# Altium footprint library MLACHT_Z.PCBLIB: 150 footprints (part 6 of 10)
Each footprint in its own frame and in the unit in brackets; x right, y up, seen from the top. Pads: shape width x height; smd on the part's side, far side on the other; paste and mask are expansions set on the pad; w line width, h text height; cw(c..) or ccw(c..) is an arc to the next point about the centre after c.
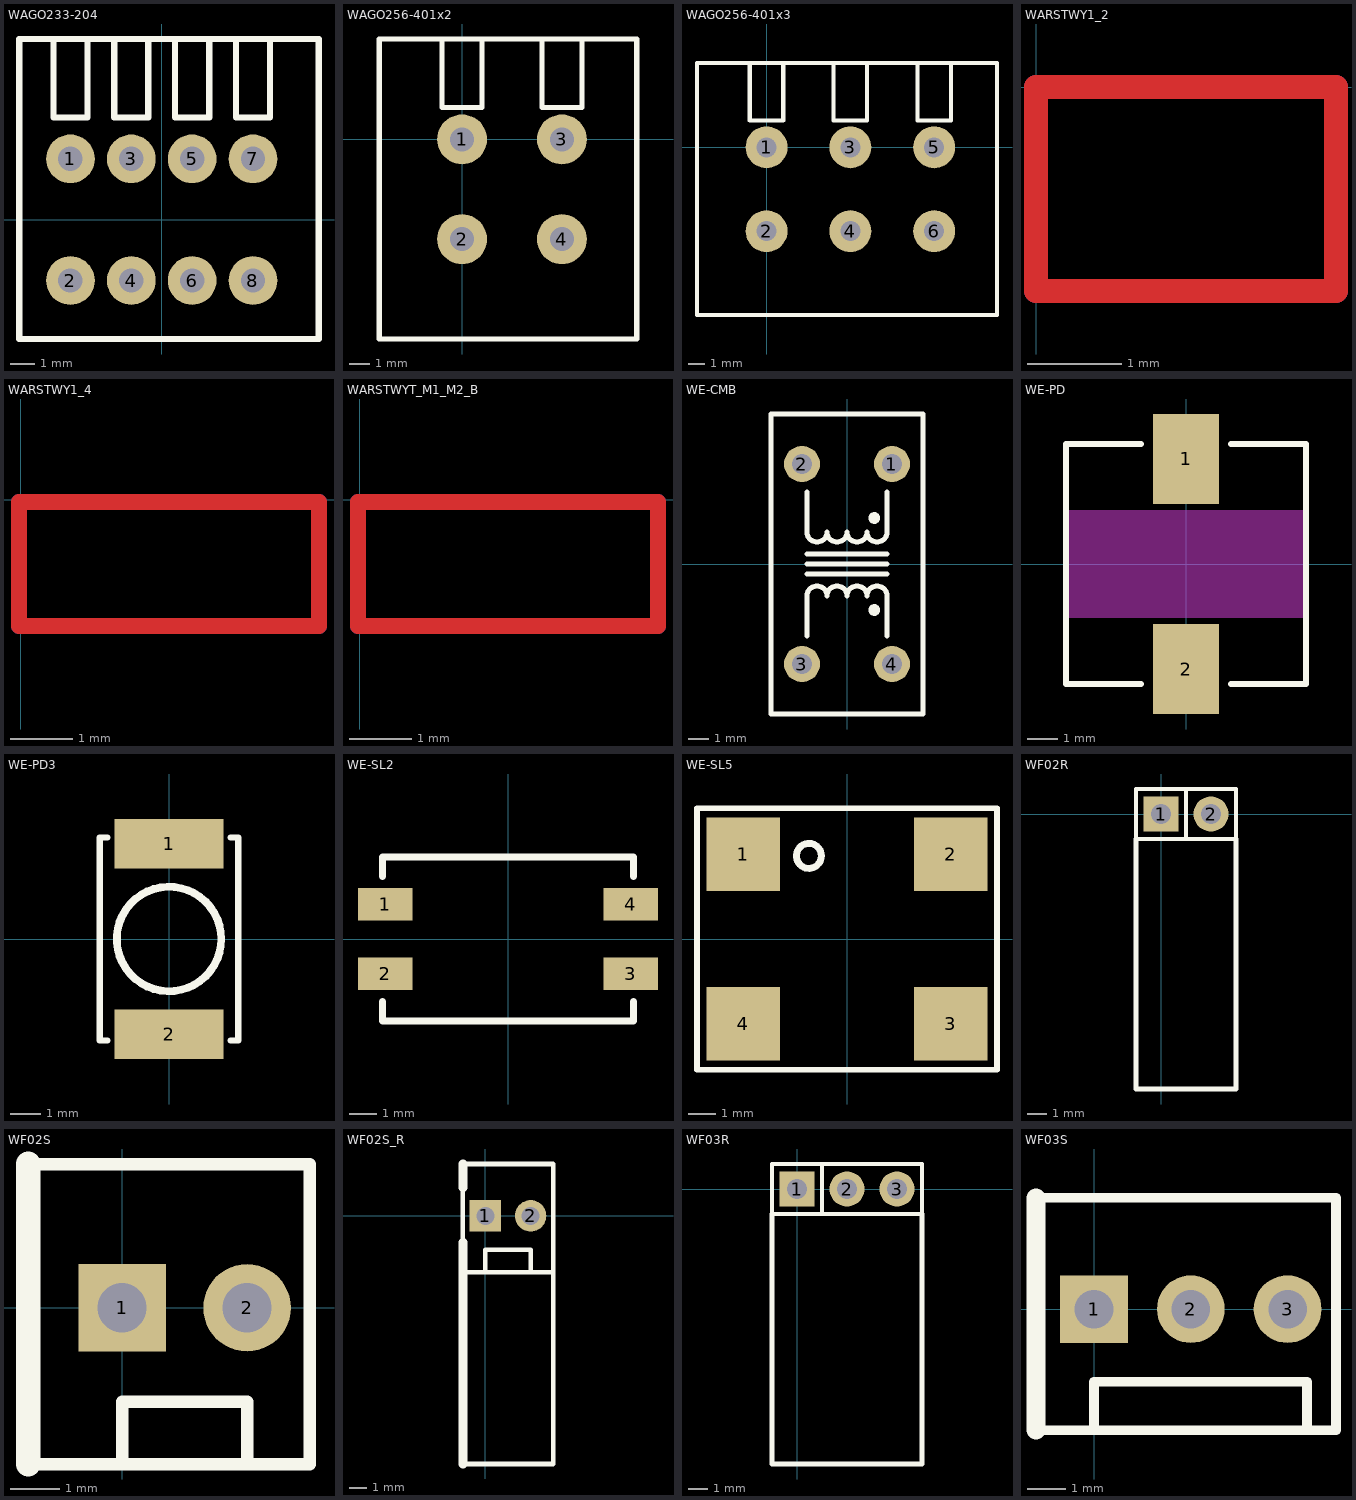
[diagram p5: the footprints below, top view; thin cyan lines are the x and y axes]

## WAGO233-204 [mm]
pads (8):
  round 2 hole 1: 1(-3.75,2.5) 2(-3.75,-2.5) 3(-1.25,2.5) 4(-1.25,-2.5) 5(1.25,2.5) 6(1.25,-2.5) 7(3.75,2.5) 8(3.75,-2.5)
TopOverlay:
  lines w0.254: -4.45,7.424 -4.45,4.2 -3.05,4.2 -3.05,7.4 ; -1.95,7.424 -1.95,4.2 -0.55,4.2 -0.55,7.4 ; 0.55,7.424 0.55,4.2 1.95,4.2 1.95,7.4 ; 3.05,7.424 3.05,4.2 4.45,4.2 4.45,7.4 ; -5.85,-4.9 6.45,-4.9 6.45,7.424 -5.85,7.424 -5.85,-4.9
3D body: height 16.45, standoff -4, extent -5.85,-4.9 6.45,7.424

## WAGO256-401x2 [mm]
pads (4):
  round 2.5 hole 1.2: 1(0,0) 2(0,-5) 3(5,0) 4(5,-5)
TopOverlay:
  lines w0.254: -1,5.029 -1,1.6 1,1.6 1,5.029 ; 4,5.029 4,1.6 6,1.6 6,5.029 ; -4.15,-10 8.75,-10 8.75,5.029 -4.15,5.029 -4.15,-10
3D body: height 18.81, standoff -4, extent 0.85,-9.9 8.75,5.125
3D body: height 18.81, standoff -4, extent -4.15,-9.9 3.75,5.125

## WAGO256-401x3 [mm]
pads (6):
  round 2.5 hole 1.2: 1(0,0) 2(0,-5) 3(5,0) 4(5,-5) 5(10,0) 6(10,-5)
TopOverlay:
  lines w0.254: -1,5.029 -1,1.6 1,1.6 1,5.029 ; 4,5.029 4,1.6 6,1.6 6,5.029 ; 9,5.029 9,1.6 11,1.6 11,5.029 ; -4.15,-10 -4.15,5.029 13.75,5.029 13.75,-10 -4.15,-10
3D body: height 18.81, standoff -4, extent -4.15,-10 13.75,5.029

## WARSTWY1_2 [mil]
TopLayer:
  lines w10: 0,-85 0,0 125,0 125,-85 0,-85
  text "1" at 19.69,-68.92 h50
BottomLayer:
  lines w10: 0,-85 0,0 125,0 125,-85 0,-85
  text "2" at 57.1,-68.92 h50

## WARSTWY1_4 [mil]
TopLayer:
  lines w10: -1.07,-79.31 186.93,-79.31 186.93,-1.31 -1.07,-1.31 -1.07,-79.31
  text "1" at 12.93,-65.31 h50
BottomLayer:
  lines w10: -1.07,-79.31 186.93,-79.31 186.93,-1.31 -1.07,-1.31 -1.07,-79.31
  text "4" at 140.93,-65.31 h50
InternalPlane1:
  lines w10: 4.93,-79.31 4.93,-1.31 ; 10.93,-79.31 10.93,-1.31 ; 20.93,-79.31 20.93,-1.31 ; 28.96,-1.31 28.96,-79.31 -1.07,-79.31 ; 90.93,-79.31 90.93,-1.31 ; 90.93,-59.34 186.93,-59.34 ; 90.93,-51.34 186.93,-51.34 ; 90.93,-43.34 186.93,-43.34 ; 90.93,-35.34 186.93,-35.34 ; 90.93,-27.34 186.93,-27.34 ; 90.93,-19.31 186.93,-19.31 ; 90.93,-11.31 186.93,-11.31 ; 92.54,-72.85 187.06,-72.85 ; 92.93,-67.34 186.93,-67.34 ; -1.07,-79.31 -1.07,-1.31 186.93,-1.31 186.93,-79.31 -1.07,-79.31
  text "2" at 42.93,-65.31 h50
InternalPlane2:
  lines w10: -1.07,-73.31 76.93,-73.31 ; -1.07,-65.31 76.93,-65.31 ; -1.07,-57.31 76.93,-57.31 ; -1.07,-49.31 76.93,-49.31 ; -1.07,-41.31 76.93,-41.31 ; -1.07,-33.31 76.93,-33.31 ; -1.07,-25.31 76.93,-25.31 ; -1.07,-17.31 76.93,-17.31 ; -1.07,-9.31 76.93,-9.31 ; 76.93,-79.31 76.93,-1.31 ; 134.93,-79.31 134.93,-1.31 ; 140.93,-79.31 140.93,-1.31 ; 146.93,-79.31 146.93,-1.31 ; 154.93,-79.31 154.93,-1.31 ; 162.93,-79.31 162.93,-1.31 ; 170.93,-79.31 170.93,-1.31 ; 178.93,-79.31 178.93,-1.31 ; -1.07,-79.31 186.93,-79.31 186.93,-1.31 -1.07,-1.31 -1.07,-79.31
  text "3" at 88.93,-65.31 h50

## WARSTWYT_M1_M2_B [mil]
TopLayer:
  lines w10: -1.07,-79.31 186.93,-79.31 186.93,-1.31 -1.07,-1.31 -1.07,-79.31
  text "1" at 12.93,-65.31 h50
MidLayer1:
  lines w10: 4.93,-79.31 4.93,-1.31 ; 10.93,-79.31 10.93,-1.31 ; 20.93,-79.31 20.93,-1.31 ; 28.96,-1.31 28.96,-79.31 -1.07,-79.31 ; 90.93,-79.31 90.93,-1.31 ; 90.93,-59.34 186.93,-59.34 ; 90.93,-51.34 186.93,-51.34 ; 90.93,-43.34 186.93,-43.34 ; 90.93,-35.34 186.93,-35.34 ; 90.93,-27.34 186.93,-27.34 ; 90.93,-19.31 186.93,-19.31 ; 90.93,-11.31 186.93,-11.31 ; 92.54,-72.85 187.06,-72.85 ; 92.93,-67.34 186.93,-67.34 ; -1.07,-79.31 -1.07,-1.31 186.93,-1.31 186.93,-79.31 -1.07,-79.31
  text "2" at 42.93,-65.31 h50
MidLayer2:
  lines w10: -1.07,-73.31 76.93,-73.31 ; -1.07,-65.31 76.93,-65.31 ; -1.07,-57.31 76.93,-57.31 ; -1.07,-49.31 76.93,-49.31 ; -1.07,-41.31 76.93,-41.31 ; -1.07,-33.31 76.93,-33.31 ; -1.07,-25.31 76.93,-25.31 ; -1.07,-17.31 76.93,-17.31 ; -1.07,-9.31 76.93,-9.31 ; 76.93,-79.31 76.93,-1.31 ; 134.93,-79.31 134.93,-1.31 ; 140.93,-79.31 140.93,-1.31 ; 146.93,-79.31 146.93,-1.31 ; 154.93,-79.31 154.93,-1.31 ; 162.93,-79.31 162.93,-1.31 ; 170.93,-79.31 170.93,-1.31 ; 178.93,-79.31 178.93,-1.31 ; -1.07,-79.31 186.93,-79.31 186.93,-1.31 -1.07,-1.31 -1.07,-79.31
  text "3" at 88.93,-65.31 h50
BottomLayer:
  lines w10: -1.07,-79.31 186.93,-79.31 186.93,-1.31 -1.07,-1.31 -1.07,-79.31
  text "4" at 140.93,-65.31 h50

## WE-CMB [mm]
pads (4):
  round 1.8 hole 1: 1(2.25,5) 2(-2.25,5) 3(-2.25,-5) 4(2.25,-5)
TopOverlay:
  circle w0.3: c1.359,-2.3 r0.141
  circle w0.3: c1.359,2.3 r0.141
  lines w0.25: -2,-3.6 -2,-1.6 cw(c-1.5,-1.6) -1,-1.6 cw(c-0.5,-1.6) 0,-1.6 cw(c0.5,-1.6) 1,-1.6 cw(c1.5,-1.6) 2,-1.6 2,-3.6 ; -2,-0.5 2,-0.5 ; -2,0 2,0 ; -2,0.5 2,0.5 ; -2,3.6 -2,1.6 ccw(c-1.5,1.6) -1,1.6 ccw(c-0.5,1.6) 0,1.6 ccw(c0.5,1.6) 1,1.6 ccw(c1.5,1.6) 2,1.6 2,3.6 ; -3.8,-7.5 3.8,-7.5 3.8,7.5 -3.8,7.5 -3.8,-7.5
3D body: height 14.72, standoff -5.1, extent -3.8,-6.897 3.7,6.897

## WE-PD [mm]
pads (2):
  rect 2.2x3 smd: 1(0,3.5) 2(0,-3.5)
TopLayer keep-out:
  rectangle: -4,-1.8 4,1.8
TopOverlay:
  lines w0.203: -1.5,-4 -4,-4 -4,4 -1.5,4 ; 1.5,-4 4,-4 4,4 1.5,4
3D body: height 5, standoff 0, extent -4,-4 4,4

## WE-PD3 [mm]
pads (2):
  rect 3.56x1.6 smd: 1(0,3.1) 2(0,-3.1)
TopOverlay:
  circle w0.254: c0,0 r1.7
  lines w0.203: -2,-3.3 -2.25,-3.3 -2.25,3.3 -2,3.3 ; 2,-3.3 2.25,-3.3 2.25,3.3 2,3.3

## WE-SL2 [mm]
pads (4):
  rect 2x1.2 smd: 1(-4.5,1.27) 2(-4.5,-1.27) 3(4.5,-1.27) 4(4.5,1.27)
TopOverlay:
  lines w0.254: -4.6,-2.286 -4.6,-3 4.6,-3 4.6,-2.286 ; -4.6,2.286 -4.6,3 4.6,3 4.6,2.286
3D body: height 1.5, standoff 0, extent -4.25,-3 4.25,3
3D body: height 5, standoff 1.5, extent -4.6,-3 4.6,3
3D body: height 1, standoff 0, extent -4.6,0.8 -3,1.75
3D body: height 1, standoff 0, extent -4.6,-1.75 -3,-0.8
3D body: height 1, standoff 0, extent 3,0.8 4.6,1.75
3D body: height 1, standoff 0, extent 3,-1.75 4.6,-0.8

## WE-SL5 [mm]
height 6.5
pads (4):
  rect 2.7x2.7 smd: 1(-3.81,3.11) 2(3.81,3.11) 3(3.81,-3.11) 4(-3.81,-3.11)
TopOverlay:
  circle w0.254: c-1.397,3.048 r0.458
  lines w0.203: -5.5,-4.8 -5.5,4.8 5.5,4.8 5.5,-4.8 -5.5,-4.8

## WF02R [mil]
pads (2):
  rect 70x70 hole 40: 1(0,0)
  round 70 hole 40: 2(100,0)
TopOverlay:
  lines w8: 50,-50 50,50 ; -50,-50 -50,50 150,50 150,-50 -50,-50
  lines w10: -50,-50 -50,-550 150,-550 150,-50
3D body: height 39.37, standoff 0, extent 0,-503.94 100,-57.09
3D body: height 228.35, standoff 0, extent -50,-188.98 150,-57.09
3D body: height 100.39, standoff 72.83, extent -11.81,-492.13 11.81,11.81
3D body: height 100.39, standoff -118.11, extent -11.81,-11.81 11.81,11.81
3D body: height 100.39, standoff -118.11, extent 88.19,-11.81 111.81,11.81
3D body: height 100.39, standoff 72.83, extent 88.19,-492.13 111.81,11.81

## WF02S [mil]
pads (2):
  rect 70x70 hole 39.37: 1(0,0)
  round 70 hole 39.37: 2(100,0)
TopOverlay:
  lines w10: -75,-125 150,-125 150,115 -75,115 ; 0,-125 0,-75 100,-75 100,-125
  lines w19.68: -75,-125 -75,115
3D body: height 433.07, standoff 0, extent 83.46,-15.75 114.96,15.75
3D body: height 433.07, standoff 0, extent -16.54,-15.75 14.96,15.75
3D body: height 452.76, standoff 0, extent 0,-125 100,-75
3D body: height 129.92, standoff 0, extent -50,-125 150,115

## WF02S_R [mil]
pads (2):
  rect 70x70 hole 40: 1(0,0)
  round 70 hole 40: 2(100,0)
TopOverlay:
  lines w9.84: -50,-59.06 -50,62.99
  lines w10: -50,-550 150,-550 150,-50 ; -50,-125 150,-125 150,115 -50,115 ; 0,-125 0,-75 100,-75 100,-125
  lines w19.68: -50,-550 -50,-59.06 ; -50,62.99 -50,115
3D body: height 433.07, standoff 0, extent 83.46,-15.75 114.96,15.75
3D body: height 433.07, standoff 0, extent -16.54,-15.75 14.96,15.75
3D body: height 452.76, standoff 0, extent 0,-125 100,-75
3D body: height 129.92, standoff 0, extent -50,-125 150,115
3D body: height 39.37, standoff 0, extent 0,-503.94 100,-57.09
3D body: height 228.35, standoff 0, extent -50,-188.98 150,-57.09
3D body: height 100.39, standoff 72.83, extent -11.81,-492.13 11.81,11.81
3D body: height 100.39, standoff -118.11, extent -11.81,-11.81 11.81,11.81
3D body: height 100.39, standoff -118.11, extent 88.19,-11.81 111.81,11.81
3D body: height 100.39, standoff 72.83, extent 88.19,-492.13 111.81,11.81

## WF03R [mil]
pads (3):
  rect 70x70 hole 40: 1(0,0)
  round 70 hole 40: 2(100,0) 3(200,0)
TopOverlay:
  lines w8: 50,-50 50,50 ; -50,-50 250,-50 250,50 -50,50 -50,-50
  lines w10: -50,-50 -50,-550 250,-550 250,-50
3D body: height 100.39, standoff 72.83, extent 188.19,-492.13 211.81,11.81
3D body: height 100.39, standoff -118.11, extent 188.19,-11.81 211.81,11.81
3D body: height 100.39, standoff 72.83, extent 88.19,-492.13 111.81,11.81
3D body: height 100.39, standoff -118.11, extent 88.19,-11.81 111.81,11.81
3D body: height 100.39, standoff -118.11, extent -11.81,-11.81 11.81,11.81
3D body: height 100.39, standoff 72.83, extent -11.81,-492.13 11.81,11.81
3D body: height 228.35, standoff 0, extent -50,-188.98 250,-57.09
3D body: height 39.37, standoff 0, extent 0,-503.94 198.82,-57.09

## WF03S [mil]
pads (3):
  rect 70x70 hole 40: 1(0,0)
  round 70 hole 40: 2(100,0) 3(200,0)
TopOverlay:
  lines w10: -60,-125 250,-125 250,115 -60,115 ; 0,-125 0,-75 220,-75 220,-125
  lines w19.68: -60,-125 -60,115
3D body: height 433.07, standoff 0, extent 183.46,-15.75 214.96,15.75
3D body: height 433.07, standoff 0, extent 83.46,-15.75 114.96,15.75
3D body: height 433.07, standoff 0, extent -16.54,-15.75 14.96,15.75
3D body: height 452.76, standoff 0, extent 0,-125 220,-75
3D body: height 129.92, standoff 0, extent -50,-125 270,115